# Altium schematic symbol library CAP-J-LEAD.SchLib: 1 symbol
Pins are listed as number, name and electrical type; pins without a type are passive.

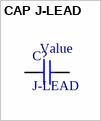
[diagram p0: symbol CAP J-LEAD]

## CAP J-LEAD
designator C?, comment J-LEAD
SMD 2 terminal J-LEAD capacitor; Value: Value
footprint CAP-2 J-lead (KTJ500B476M76BFT00, 6.60mm x 7.80mm, Ceramic Capacitor X7R Stacked SMD, 2 J-Lead)
pins: 1, 2